# EAGLE library part 6K7 (library radiotubes)
Octal Penthodes 6J7, 6K7, 6M7, 6S7, 6U7, 6W7, 6RV, EF36, EF37, EF39.
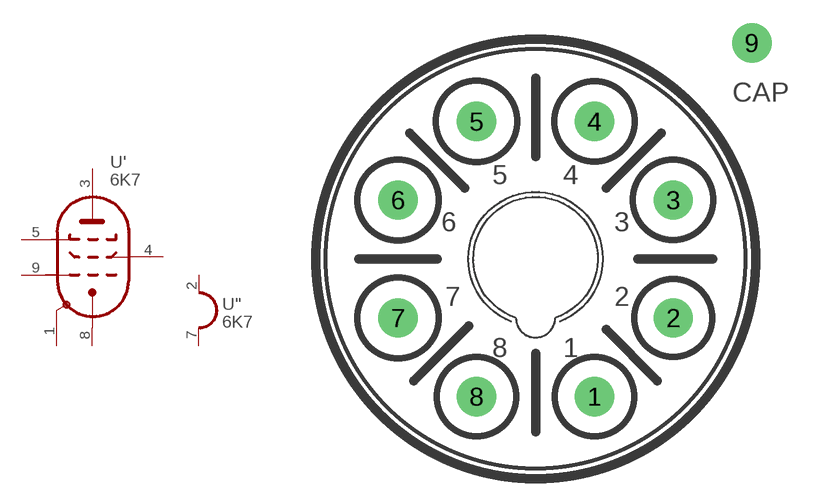
[diagram p147: symbol with the pads of OCTAL-C; footprint OCTAL-C]

Designator prefix -; gates '=PENT-1S "=HEATER_1

## 6K7  [OCTAL-C]
1  ':S  pas
2  ":H1  pas
3  ':A  pas
4  ':G2  pas
5  ':G3  pas
7  ":H2  pas
8  ':K+S  pas
9  ':G1  pas

## Footprint OCTAL-C (pad centres in mm)
drill 1.27 pad 2.54: 1 3.81,-8.89; 2 8.89,-3.81; 3 8.89,3.81; 4 3.81,8.89; 5 -3.81,8.89; 6 -8.89,3.81; 7 -8.89,-3.81; 8 -3.81,-8.89; 9 13.97,13.97